# EAGLE library part LTC3857 (library PowerProducts)
Low IQ, Dual, 2-Phase Synchronous Step-Down Controller
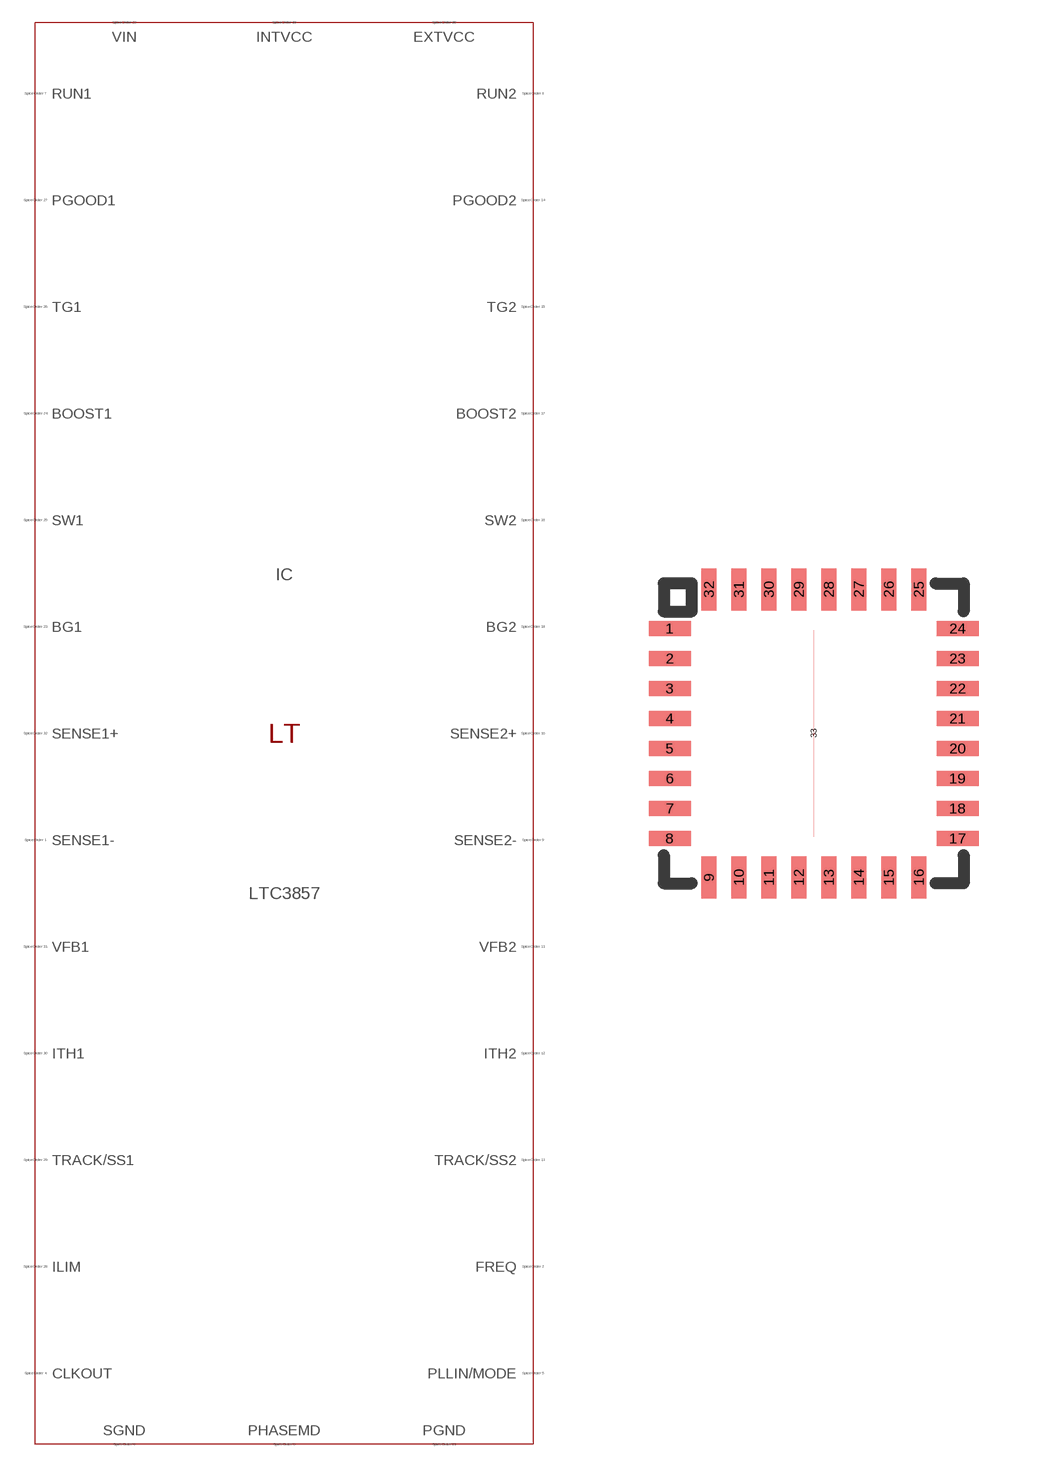
[diagram p374: symbol with the pads of QFN32(UH); footprint QFN32(UH)]

Designator prefix IC

## LTC3857 (SPICEMODEL: LTC3857.sub; SPICEPREFIX: X; VALUE2: LTC3857)  [QFN32(UH)]
1  SENSE1-  pas
2  FREQ  pas
3  PHASEMD  pas
4  CLKOUT  pas
5  PLLIN/MODE  pas
6  SGND  pas
7  RUN1  pas
8  RUN2  pas
9  SENSE2-  pas
10  SENSE2+  pas
11  VFB2  pas
12  ITH2  pas
13  TRACK/SS2  pas
14  PGOOD2  pas
15  TG2  pas
16  SW2  pas
17  BOOST2  pas
18  BG2  pas
19  INTVCC  pas
20  EXTVCC  pas
21  PGND  pas
22  VIN  pas
23  BG1  pas
24  BOOST1  pas
25  SW1  pas
26  TG1  pas
27  PGOOD1  pas
28  ILIM  pas
29  TRACK/SS1  pas
30  ITH1  pas
31  VFB1  pas
32  SENSE1+  pas
33  SGND  pas

## Footprint QFN32(UH) (pad centres in mm)
Package generated from: QFN32(UH).asc (!PADS-POWERPCB-V5.0-BASIC! DESIGN DATABASE ASCII FILE 1.0) with :import-pads-powerpcb-v5.ulp Version 1.0.1 at 04.10.2012 14:11:25
smd 1.05 x 0.375: 1 -3.6,2.625; 2 -3.6,1.875; 3 -3.6,1.125; 4 -3.6,0.375; 5 -3.6,-0.375; 6 -3.6,-1.125; 7 -3.6,-1.875; 8 -3.6,-2.625; 17 3.6,-2.625; 18 3.6,-1.875; 19 3.6,-1.125; 20 3.6,-0.375; 21 3.6,0.375; 22 3.6,1.125; 23 3.6,1.875; 24 3.6,2.625
smd 0.375 x 1.05: 9 -2.625,-3.6; 10 -1.875,-3.6; 11 -1.125,-3.6; 12 -0.375,-3.6; 13 0.375,-3.6; 14 1.125,-3.6; 15 1.875,-3.6; 16 2.625,-3.6; 25 2.625,3.6; 26 1.875,3.6; 27 1.125,3.6; 28 0.375,3.6; 29 -0.375,3.6; 30 -1.125,3.6; 31 -1.875,3.6; 32 -2.625,3.6
smd 0 x 5.175: 33 0,0